# Altium footprint library Buttons & Switches.PcbLib: 21 footprints (part 1 of 2)
Each footprint in its own frame and in the unit in brackets; x right, y up, seen from the top. Pads: shape width x height; smd on the part's side, far side on the other; paste and mask are expansions set on the pad; w line width, h text height; cw(c..) or ccw(c..) is an arc to the next point about the centre after c.
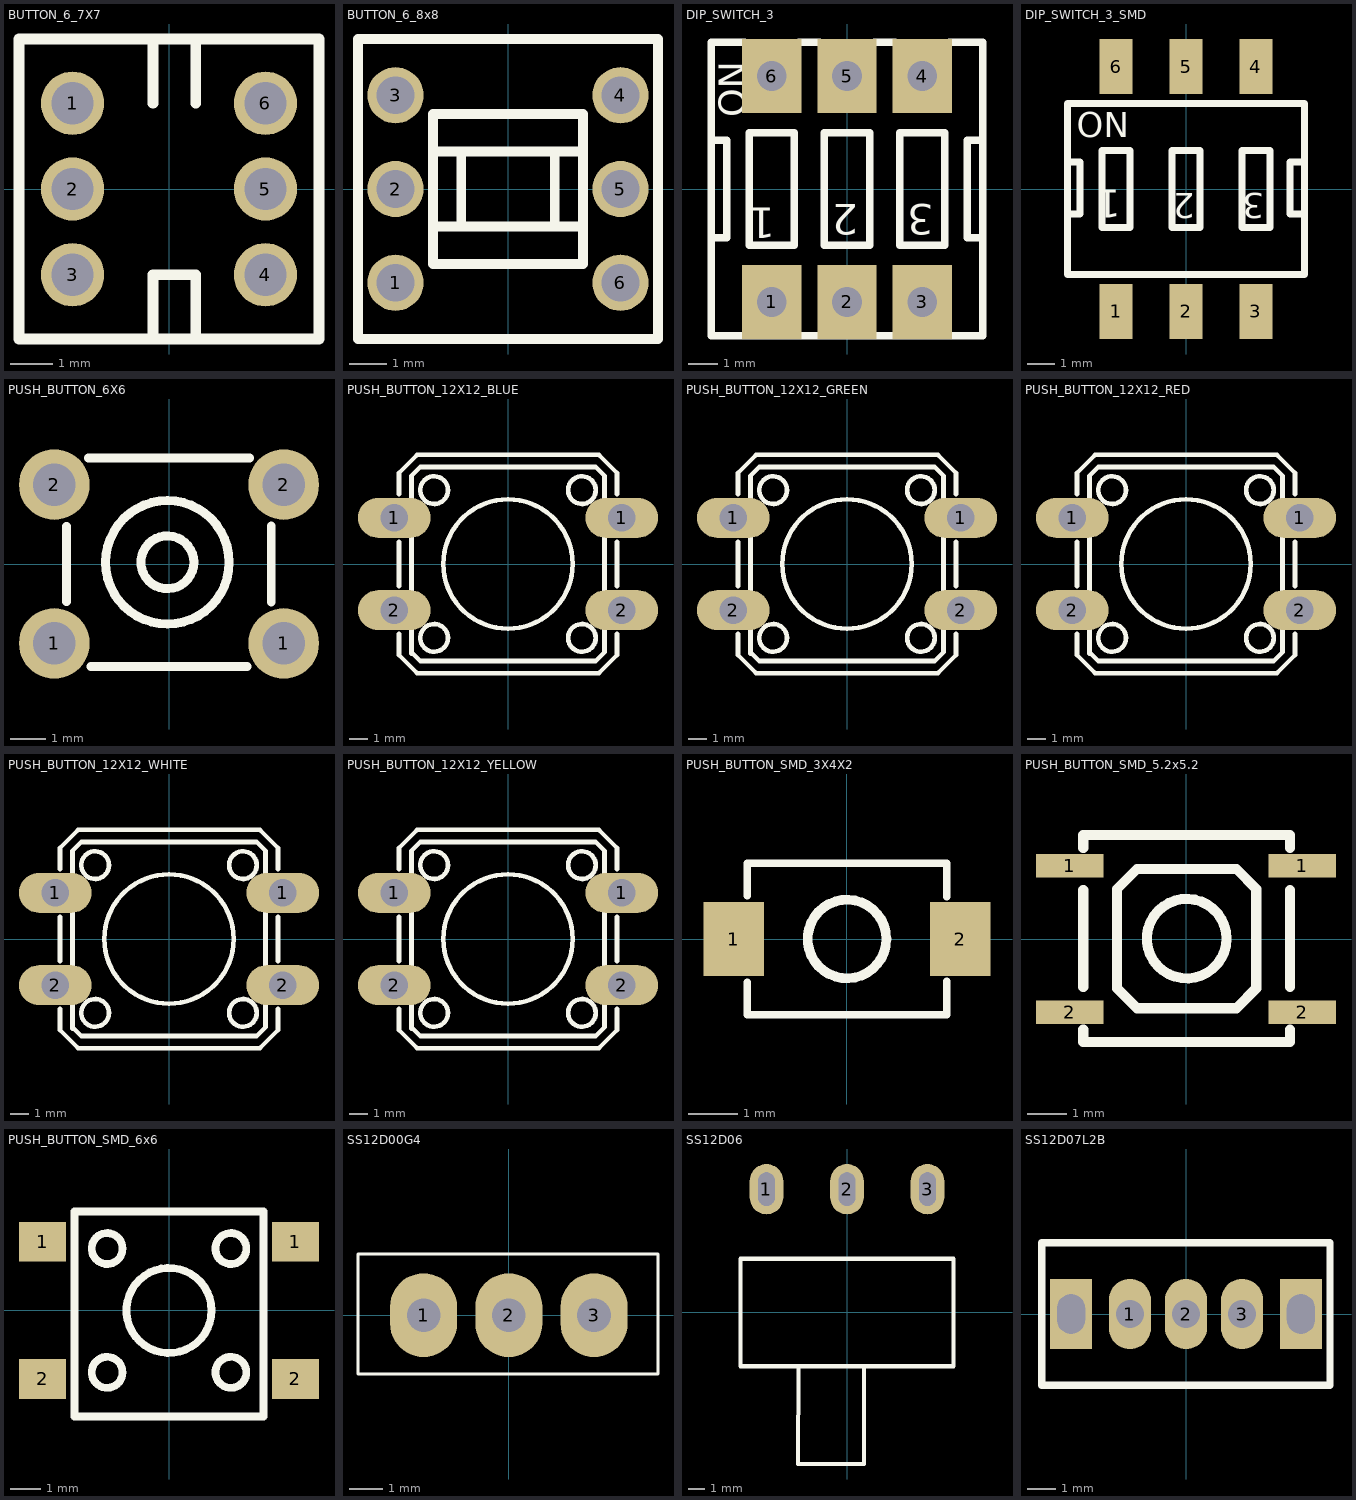
[diagram p0: the footprints below, top view; thin cyan lines are the x and y axes]

## BUTTON_6_7X7 [mm]
pads (6):
  round 1.5 hole 1: 1(-2.286,2.032) 2(-2.286,0) 3(-2.286,-2.032) 4(2.286,-2.032) 5(2.286,0) 6(2.286,2.032)
Top Overlay:
  lines w0.254: -0.381,2.032 -0.381,3.556 ; 0.635,2.032 0.635,3.556 ; -0.381,-3.556 0.635,-3.556 ; -0.381,-3.556 -0.381,-2.032 ; -0.381,-3.556 -0.381,-2.032 ; -0.381,-2.032 0.635,-2.032 ; -0.381,-2.032 0.635,-2.032 ; 0.635,-3.556 0.635,-2.032 ; 0.635,-3.556 0.635,-2.032 ; -3.556,-3.556 3.556,-3.556 3.556,3.556 -3.556,3.556 -3.556,-3.556
3D body "TL2230EEF100--3DModel-STEP-613395.STEP": height 12.5, standoff -3.5, extent -3.5,-3.5 3.5,3.5

## BUTTON_6_8x8 [mm]
pads (6):
  round 1.5 hole 1: 1(-3,-2.5) 2(-3,0) 3(-3,2.5) 4(3,2.5) 5(3,0) 6(3,-2.5)
Top Overlay:
  lines w0.254: -2,-1 2,-1 ; -2,1 2,1 ; -1.25,-1 -1.25,1 ; 1.25,-1 1.25,1 ; -4,-4 4,-4 4,4 -4,4 -4,-4 ; -2,-2 2,-2 2,2 -2,2 -2,-2
3D body "BUTTON_6_8X8.stp": height 13.6, standoff -3.5, extent -4.026,-4.041 3.974,3.959

## DIP_SWITCH_3 [mm]
pads (6):
  rect 2x2.5 hole 1: 1(-2.54,-3.81) 2(0,-3.81) 3(2.54,-3.81) 4(2.54,3.81) 5(0,3.81) 6(-2.54,3.81)
Top Overlay:
  lines w0.254: -3.456,4.953 -4.572,4.953 -4.572,1.651 ; -1.624,4.953 -0.916,4.953 ; 0.916,4.953 1.624,4.953 ; 3.456,4.953 4.572,4.953 4.572,1.651 ; -4.572,-1.651 -4.064,-1.651 -4.064,1.651 -4.572,1.651 ; -4.572,-1.651 -4.572,-4.953 4.572,-4.953 4.572,-1.651 ; -4.572,-1.651 -4.572,1.651 ; 4.572,-1.651 4.572,1.651 ; 4.572,-1.651 4.064,-1.651 4.064,1.651 4.572,1.651 ; -3.302,-1.905 -1.778,-1.905 -1.778,1.905 -3.302,1.905 -3.302,-1.905 ; -0.762,-1.905 -0.762,1.905 0.762,1.905 0.762,-1.905 -0.762,-1.905 ; 1.778,-1.905 1.778,1.905 3.302,1.905 3.302,-1.905 1.778,-1.905
  text "3" at 2.921,-0.508 h1.02
  text "2" at 0.381,-0.508 h1.02
  text "1" at -2.413,-0.635 h1.02
  text "ON" at -3.429,2.413 h0.9
3D body "switch3_DIP.stp": height 7.2, standoff -3.1, extent -4.608,-4.953 4.572,4.947

## DIP_SWITCH_3_SMD [mm]
pads (6):
  rect 1.2x2 smd: 1(-2.54,-4.45) 2(0,-4.45) 3(2.54,-4.45) 4(2.54,4.45) 5(0,4.45) 6(-2.54,4.45)
Top Overlay:
  lines w0.254: -4.229,-0.917 -3.848,-0.917 -3.848,0.988 -4.229,0.988 ; 4.153,-0.917 3.772,-0.917 3.772,0.988 4.153,0.988 ; -4.3,-3.1 4.3,-3.1 4.3,3.1 -4.3,3.1 -4.3,-3.1 ; -3.048,-1.397 -2.032,-1.397 -2.032,1.397 -3.048,1.397 -3.048,-1.397 ; -0.508,-1.397 0.508,-1.397 0.508,1.397 -0.508,1.397 -0.508,-1.397 ; 2.032,-1.397 3.048,-1.397 3.048,1.397 2.032,1.397 2.032,-1.397
  text "ON" at -3.975,1.877 h0.9
  text "3" at 2.844,-0.155 h0.9
  text "1" at -2.376,-0.028 h1.02
  text "2" at 0.314,-0.155 h0.9
3D body "SWITCH3_DIP_SMD.step": height 4.36, standoff 0.04, extent -4.318,-5.002 4.242,4.798

## PUSH_BUTTON_6X6 [mm]
pads (4):
  round 2 hole 1.2: 1(-3.25,-2.25) 1(3.25,-2.25) 2(-3.25,2.25) 2(3.25,2.25)
Top Overlay:
  circle w0.254: c-0.046,0.048 r1.75
  circle w0.254: c-0.046,0.048 r0.749
  lines w0.254: -2.902,-1.069 -2.902,1.069 ; -2.275,3.001 2.275,3.001 ; -2.203,-2.898 2.203,-2.898 ; 2.897,-1.071 2.897,1.071
3D body "PUSH_BUTTON_6X6.STEP": height 6.8, standoff -5.3, extent -3.938,-3.075 4.074,2.925

## PUSH_BUTTON_12X12_BLUE [mm]
pads (4):
  oval 4x2.2 hole 1.5: 1(-6.251,2.54) 1(6.251,2.54) 2(-6.251,-2.54) 2(6.251,-2.54)
Top Overlay:
  circle w0.254: c0,0 r3.556
  circle w0.254: c4.064,-4.064 r0.762
  circle w0.254: c-4.064,-4.064 r0.762
  circle w0.254: c4.064,4.064 r0.762
  circle w0.254: c-4.064,4.064 r0.762
  lines w0.254: -5.994,-5.016 -5.994,-3.846 ; -5.994,-5.004 -5.004,-5.994 ; -5.994,-1.234 -5.994,1.234 ; -5.994,3.846 -5.994,5.004 -5.004,5.994 ; -5.309,-4.941 -5.309,-3.479 ; -5.309,-4.851 -4.826,-5.334 4.826,-5.334 5.309,-4.851 5.309,-3.479 ; -5.309,-1.601 -5.309,1.601 ; -5.309,3.479 -5.309,4.851 -4.826,5.334 4.826,5.334 5.309,4.851 5.309,3.479 ; -5,-6 5,-6 ; -5,6 5,6 ; 5.004,-5.994 5.994,-5.004 5.994,-3.846 ; 5.004,5.994 5.994,5.004 5.994,3.846 ; 5.309,-1.601 5.309,1.601 ; 5.994,-1.234 5.994,1.234
3D body "BUTTON_12mm_BLUE.stp": height 8.84, standoff -3.05, extent -6.767,-6.013 6.649,6.001

## PUSH_BUTTON_12X12_GREEN [mm]
pads (4):
  oval 4x2.2 hole 1.5: 1(-6.251,2.54) 1(6.251,2.54) 2(-6.251,-2.54) 2(6.251,-2.54)
Top Overlay:
  circle w0.254: c0,0 r3.556
  circle w0.254: c4.064,-4.064 r0.762
  circle w0.254: c-4.064,-4.064 r0.762
  circle w0.254: c4.064,4.064 r0.762
  circle w0.254: c-4.064,4.064 r0.762
  lines w0.254: -5.994,-5.016 -5.994,-3.846 ; -5.994,-5.004 -5.004,-5.994 ; -5.994,-1.234 -5.994,1.234 ; -5.994,3.846 -5.994,5.004 -5.004,5.994 ; -5.309,-4.941 -5.309,-3.479 ; -5.309,-4.851 -4.826,-5.334 4.826,-5.334 5.309,-4.851 5.309,-3.479 ; -5.309,-1.601 -5.309,1.601 ; -5.309,3.479 -5.309,4.851 -4.826,5.334 4.826,5.334 5.309,4.851 5.309,3.479 ; -5,-6 5,-6 ; -5,6 5,6 ; 5.004,-5.994 5.994,-5.004 5.994,-3.846 ; 5.004,5.994 5.994,5.004 5.994,3.846 ; 5.309,-1.601 5.309,1.601 ; 5.994,-1.234 5.994,1.234
3D body "BUTTON_12mm_GREEN.stp": height 8.84, standoff -3.05, extent -6.767,-6.013 6.649,6.001

## PUSH_BUTTON_12X12_RED [mm]
pads (4):
  oval 4x2.2 hole 1.5: 1(-6.251,2.54) 1(6.251,2.54) 2(-6.251,-2.54) 2(6.251,-2.54)
Top Overlay:
  circle w0.254: c0,0 r3.556
  circle w0.254: c4.064,-4.064 r0.762
  circle w0.254: c-4.064,-4.064 r0.762
  circle w0.254: c4.064,4.064 r0.762
  circle w0.254: c-4.064,4.064 r0.762
  lines w0.254: -5.994,-5.016 -5.994,-3.846 ; -5.994,-5.004 -5.004,-5.994 ; -5.994,-1.234 -5.994,1.234 ; -5.994,3.846 -5.994,5.004 -5.004,5.994 ; -5.309,-4.941 -5.309,-3.479 ; -5.309,-4.851 -4.826,-5.334 4.826,-5.334 5.309,-4.851 5.309,-3.479 ; -5.309,-1.601 -5.309,1.601 ; -5.309,3.479 -5.309,4.851 -4.826,5.334 4.826,5.334 5.309,4.851 5.309,3.479 ; -5,-6 5,-6 ; -5,6 5,6 ; 5.004,-5.994 5.994,-5.004 5.994,-3.846 ; 5.004,5.994 5.994,5.004 5.994,3.846 ; 5.309,-1.601 5.309,1.601 ; 5.994,-1.234 5.994,1.234
3D body "BUTTON_12mm_RED.stp": height 8.84, standoff -3.05, extent -6.767,-6.013 6.649,6.001

## PUSH_BUTTON_12X12_WHITE [mm]
pads (4):
  oval 4x2.2 hole 1.5: 1(-6.251,2.54) 1(6.251,2.54) 2(-6.251,-2.54) 2(6.251,-2.54)
Top Overlay:
  circle w0.254: c0,0 r3.556
  circle w0.254: c4.064,-4.064 r0.762
  circle w0.254: c-4.064,-4.064 r0.762
  circle w0.254: c4.064,4.064 r0.762
  circle w0.254: c-4.064,4.064 r0.762
  lines w0.254: -5.994,-5.016 -5.994,-3.846 ; -5.994,-5.004 -5.004,-5.994 ; -5.994,-1.234 -5.994,1.234 ; -5.994,3.846 -5.994,5.004 -5.004,5.994 ; -5.309,-4.941 -5.309,-3.479 ; -5.309,-4.851 -4.826,-5.334 4.826,-5.334 5.309,-4.851 5.309,-3.479 ; -5.309,-1.601 -5.309,1.601 ; -5.309,3.479 -5.309,4.851 -4.826,5.334 4.826,5.334 5.309,4.851 5.309,3.479 ; -5,-6 5,-6 ; -5,6 5,6 ; 5.004,-5.994 5.994,-5.004 5.994,-3.846 ; 5.004,5.994 5.994,5.004 5.994,3.846 ; 5.309,-1.601 5.309,1.601 ; 5.994,-1.234 5.994,1.234
3D body "BUTTON_12mm_WHITE.stp": height 10.82, standoff -4.33, extent -6.284,-6.004 6.316,5.996

## PUSH_BUTTON_12X12_YELLOW [mm]
pads (4):
  oval 4x2.2 hole 1.5: 1(-6.251,2.54) 1(6.251,2.54) 2(-6.251,-2.54) 2(6.251,-2.54)
Top Overlay:
  circle w0.254: c-4.064,4.064 r0.762
  circle w0.254: c4.064,4.064 r0.762
  circle w0.254: c-4.064,-4.064 r0.762
  circle w0.254: c4.064,-4.064 r0.762
  circle w0.254: c0,0 r3.556
  lines w0.254: -5.994,-5.016 -5.994,-3.846 ; -5.994,-5.004 -5.004,-5.994 ; -5.994,-1.234 -5.994,1.234 ; -5.994,3.846 -5.994,5.004 -5.004,5.994 ; -5.309,-4.941 -5.309,-3.479 ; -5.309,-4.851 -4.826,-5.334 4.826,-5.334 5.309,-4.851 5.309,-3.479 ; -5.309,-1.601 -5.309,1.601 ; -5.309,3.479 -5.309,4.851 -4.826,5.334 4.826,5.334 5.309,4.851 5.309,3.479 ; -5,-6 5,-6 ; -5,6 5,6 ; 5.004,-5.994 5.994,-5.004 5.994,-3.846 ; 5.004,5.994 5.994,5.004 5.994,3.846 ; 5.309,-1.601 5.309,1.601 ; 5.994,-1.234 5.994,1.234
3D body "BUTTON_12mm_YELLOW.stp": height 8.84, standoff -3.05, extent -6.767,-6.013 6.649,6.001

## PUSH_BUTTON_SMD_3X4X2 [mm]
pads (2):
  rect 1.23x1.5 smd: 1(-2.3,0) 2(2.3,0)
Top Overlay:
  circle w0.2: c0,0 r0.8
  lines w0.15: 2.026,-1.541 2.026,-0.859 ; 2.026,0.859 2.026,1.541
  lines w0.152: -2.026,-0.883 -2.026,-1.541 2.026,-1.541 ; -2.026,0.883 -2.026,1.541 2.026,1.541
3D body "PUSH_BUTTON_SMD_3X4X2.step": height 2, standoff 0, extent -2.494,-1.45 2.506,1.45

## PUSH_BUTTON_SMD_5.2x5.2 [mm]
pads (4):
  rect 1.7x0.6 smd: 1(-2.921,1.841) 1(2.921,1.841) 2(-2.921,-1.841) 2(2.921,-1.841)
Top Overlay:
  circle w0.254: c0.017,0.009 r1
  lines w0.254: -2.584,-2.272 -2.584,-2.592 -0.564,-2.592 0.517,-2.592 ; -2.584,-1.21 -2.584,1.228 ; -2.584,2.291 -2.584,2.61 -0.564,2.61 ; -0.684,2.61 0.598,2.61 2.618,2.61 2.618,2.291 ; 0.598,-2.592 2.618,-2.592 2.618,-2.272 ; 2.618,-1.21 2.618,1.228 ; -1.733,-1.241 -1.733,1.259 -1.233,1.759 1.267,1.759 1.767,1.259 1.767,-1.241 1.267,-1.741 -1.233,-1.741 -1.733,-1.241
3D body "PUSH_BUTTON_SMD_5.2x5.2.stp": height 2.51, standoff 0.01, extent -3.2,-2.603 3.2,2.596

## PUSH_BUTTON_SMD_6x6 [mm]
pads (4):
  rect 1.55x1.3 smd: 1(-4.15,2.25) 1(4.15,2.25) 2(-4.15,-2.25) 2(4.15,-2.25)
Top Overlay:
  circle w0.254: c0,0 r1.397
  circle w0.254: c2.032,-2.032 r0.508
  circle w0.254: c-2.032,-2.032 r0.508
  circle w0.254: c2.032,2.032 r0.508
  circle w0.254: c-2.032,2.032 r0.508
  lines w0.254: -3.1,-3.48 3.101,-3.48 3.101,3.247 -3.1,3.247 -3.1,-3.48
3D body "BUTTON_TACTIL_SMD.stp": height 4.3, standoff 0, extent -4.212,-3.282 4.288,3.318

## SS12D00G4 [mm]
pads (3):
  oval 2x2.5 hole 1: 1(-2.54,0) 2(0,0) 3(2.54,0)
Top Overlay:
  lines w0.1: -4.497,-1.754 -4.497,1.824 4.448,1.824 4.448,-1.754 -4.497,-1.754
3D body "chaveSS12D00G4.STEP": height 5.5, standoff -4, extent -4.5,-1.8 4.5,1.8

## SS12D06 [mm]
pads (3):
  oval 2x3 hole 1 slot 2 at 90 deg: 1(-4.8,7.35) 3(4.8,7.35)
  oval 2x3 hole 1 slot 2 at 90 deg unplated: 2(0,7.35)
Top Overlay:
  lines w0.254: -2.892,-3.201 -2.925,-9.033 1.015,-9.033 1.02,-3.201 ; -6.35,-3.2 -6.35,3.2 6.35,3.2 6.35,-3.2 -6.35,-3.2
3D body "ss12d06.stp": height 6.8, standoff -2.35, extent -6.475,-9.191 6.475,7.909

## SS12D07L2B [mm]
pads (5):
  oval 1.5x2.5 hole 1: 1(-2,0) 2(0,0) 3(2,0)
  rect 1.5x2.5 hole 1 slot 1.4 at 90 deg: ""(-4.1,0) ""(4.1,0)
Top Overlay:
  lines w0.254: -5.145,-2.54 -5.145,2.54 5.142,2.54 5.142,-2.54 -5.145,-2.54
3D body "chaveSS12D07L2B.stp": height 6.7, standoff -2.8, extent -4.3,-2.25 4.3,2.25